# Altium schematic symbol library AS4C8M16SA-6TCN.SchLib: 1 symbol
Pins are listed as number, name and electrical type; pins without a type are passive.

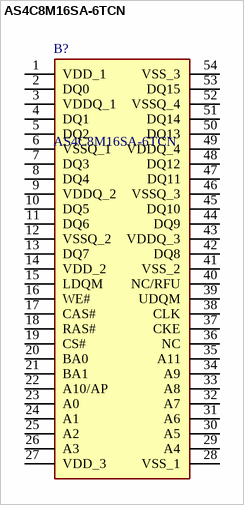
[diagram p0: symbol AS4C8M16SA-6TCN]

## AS4C8M16SA-6TCN
designator B?
DRAM; Manufacturer_Name: Alliance Memory; Geometry.Height: 1.2mm; Mouser Part Number: 913-4C8M16SA-6TCN; Mouser Price/Stock: https://www.mouser.co.uk/ProductDetail/Alliance-Memory/AS4C8M16SA-6TCN?qs=os3kWr9Y3%252BAH%252BnoNsfnp3A%3D%3D; Manufacturer_Part_Number: AS4C8M16SA-6TCN; Datasheet Link: https://www.alliancememory.com/wp-content/uploads/pdf/dram/128M-AS4C8M16SA.pdf
footprint SOP80P1176X120-54N
pins: 1 VDD_1, 2 DQ0, 3 VDDQ_1, 4 DQ1, 5 DQ2, 6 VSSQ_1, 7 DQ3, 8 DQ4, 9 VDDQ_2, 10 DQ5, 11 DQ6, 12 VSSQ_2, 13 DQ7, 14 VDD_2, 15 LDQM, 16 WE#, 17 CAS#, 18 RAS#, 19 CS#, 20 BA0, 21 BA1, 22 A10/AP, 23 A0, 24 A1, 25 A2, 26 A3, 27 VDD_3, 28 VSS_1, 29 A4, 30 A5, 31 A6, 32 A7, 33 A8, 34 A9, 35 A11, 36 NC, 37 CKE, 38 CLK, 39 UDQM, 40 NC/RFU, 41 VSS_2, 42 DQ8, 43 VDDQ_3, 44 DQ9, 45 DQ10, 46 VSSQ_3, 47 DQ11, 48 DQ12, 49 VDDQ_4, 50 DQ13, 51 DQ14, 52 VSSQ_4, 53 DQ15, 54 VSS_3